# EAGLE library part MR16030 (library DC-DC Regulator)
SIMPLE SWITCHER 60V, 3A Step-Down Converter with 40uA Iq Source: Datasheet <http://www.ti.com/lit/gpn/LMR16030>
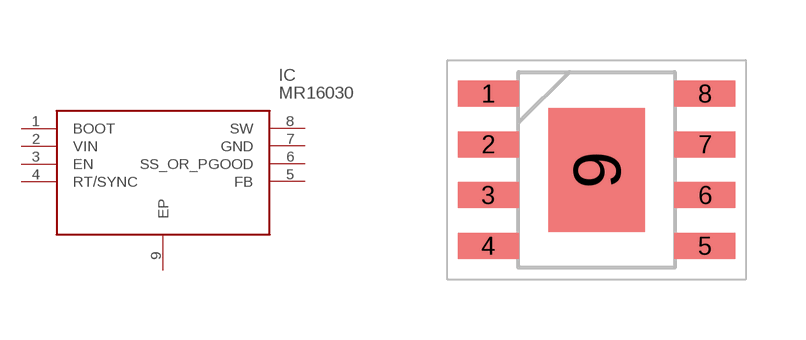
[diagram p1: symbol with the pads of SOIC8; footprint SOIC8]

Designator prefix IC

## MR16030 (DESCRIPTION: SIMPLE SWITCHER 60V, 3A Step-Down Converter with 40uA Iq; HEIGHT: 1.7mm; MANUFACTURER_NAME: Texas Instruments; MANUFACTURER_PART_NUMBER: LMR16030SDDA; MOUSER_PART_NUMBER: 595-LMR16030SDDA; MOUSER_PRICE-STOCK: https://www.mouser.co.uk/ProductDetail/Texas-Instruments/LMR16030SDDA?qs=n%252BTO0c4TDSZ3oM2H5z91UQ%3D%3D)  [SOIC8]
1  BOOT
2  VIN
3  EN
4  RT/SYNC
5  FB
6  SS_OR_PGOOD
7  GND
8  SW
9  EP

## Footprint SOIC8 (pad centres in mm)
DDA (PDSO-G8)
smd 1.525 x 0.65: 1 -2.712,1.905; 2 -2.712,0.635; 3 -2.712,-0.635; 4 -2.712,-1.905; 5 2.712,-1.905; 6 2.712,-0.635; 7 2.712,0.635; 8 2.712,1.905
smd 2.4 x 3.1: 9 0,0